# EAGLE library part MOTORDRIVER (library chinese-modules)
Dual motor driver module.
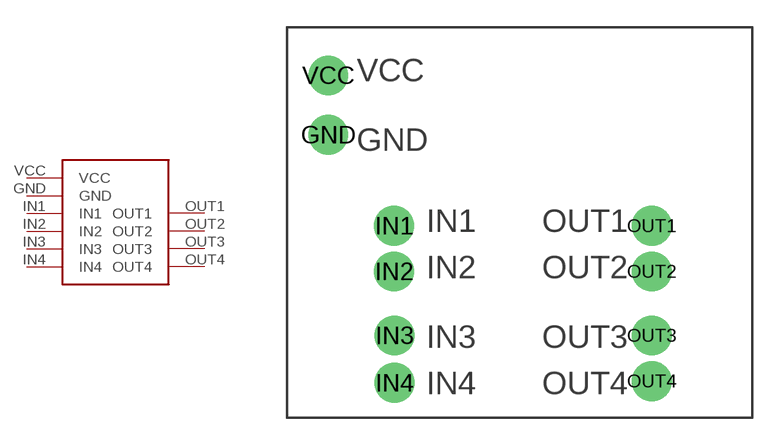
[diagram p0: symbol with the pads of MOTORDRIVER; footprint MOTORDRIVER]

Designator prefix -

## MOTORDRIVER  [MOTORDRIVER]
GND  GND
IN1  IN1
IN2  IN2
IN3  IN3
IN4  IN4
OUT1  OUT1
OUT2  OUT2
OUT3  OUT3
OUT4  OUT4
VCC  VCC

## Footprint MOTORDRIVER (pad centres in mm)
Dual motor driver board footprint.
drill 1 pad 2.184: GND 2.254,15.492; IN1 5.865,10.508; IN2 5.865,8.008; IN3 5.892,4.5; IN4 5.892,1.9; OUT1 19.992,10.508; OUT2 19.992,8.008; OUT3 19.992,4.5; OUT4 19.992,2; VCC 2.254,18.746